# EAGLE library part AT28C64B (library eeprom)
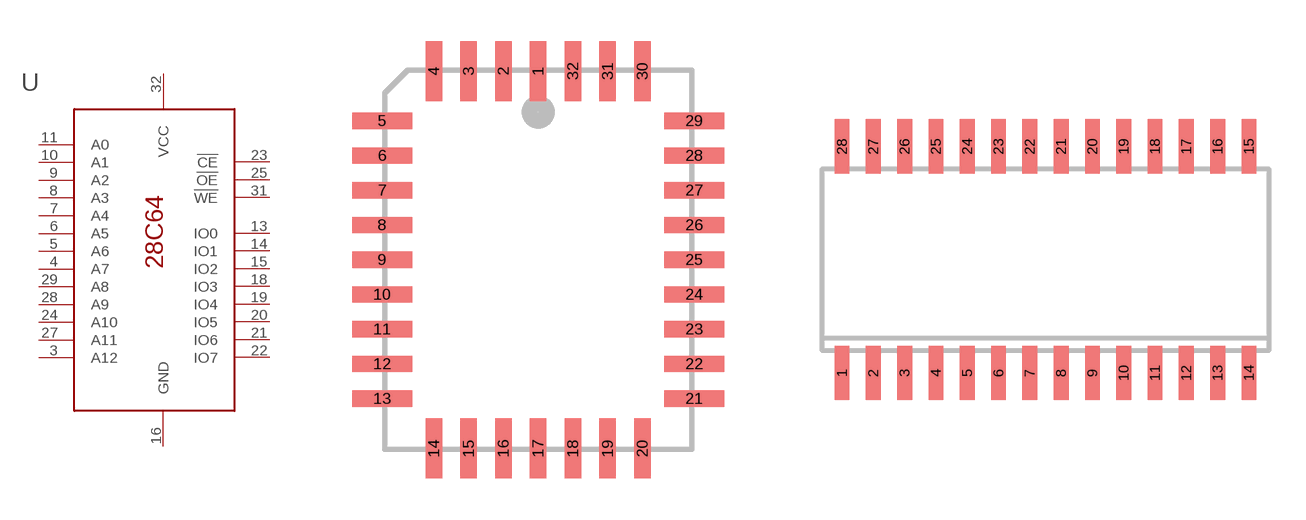
[diagram p0: symbol with the pads of PLCCR32; footprints PLCCR32, SO28W]

Designator prefix U

## AT28C64B32J  [PLCCR32]
3  A12
4  A7
5  A6
6  A5
7  A4
8  A3
9  A2
10  A1
11  A0
13  IO0
14  IO1
15  IO2
16  GND  pwr
18  IO3
19  IO4
20  IO5
21  IO6
22  IO7
23  !CE
24  A10
25  !OE
27  A11
28  A9
29  A8
31  !WE
32  VCC  pwr

## AT28C64B28S  [SO28W]
2  A12
3  A7
4  A6
5  A5
6  A4
7  A3
8  A2
9  A1
10  A0
11  IO0
12  IO1
13  IO2
14  GND  pwr
15  IO3
16  IO4
17  IO5
18  IO6
19  IO7
20  !CE
21  A10
22  !OE
23  A11
24  A9
25  A8
27  !WE
28  VCC  pwr

## Footprint PLCCR32 (pad centres in mm)
PLASTIC LEADED CHIP CARRIER rectangle
smd 0.6 x 2.2: 1 0,6.9; 2 -1.27,6.9; 3 -2.54,6.9; 4 -3.81,6.9; 14 -3.81,-6.9; 15 -2.54,-6.9; 16 -1.27,-6.9; 17 0,-6.9; 18 1.27,-6.9; 19 2.54,-6.9; 20 3.81,-6.9; 30 3.81,6.9; 31 2.54,6.9; 32 1.27,6.9
smd 2.2 x 0.6: 5 -5.7,5.08; 6 -5.7,3.81; 7 -5.7,2.54; 8 -5.7,1.27; 9 -5.7,0; 10 -5.7,-1.27; 11 -5.7,-2.54; 12 -5.7,-3.81; 13 -5.7,-5.08; 21 5.7,-5.08; 22 5.7,-3.81; 23 5.7,-2.54; 24 5.7,-1.27; 25 5.7,0; 26 5.7,1.27; 27 5.7,2.54; 28 5.7,3.81; 29 5.7,5.08

## Footprint SO28W (pad centres in mm)
SMALL OUTLINE INTEGRATED CIRCUIT wide body 7.5 mm/JEDEC MO-119AB
smd 0.6 x 2.2: 1 -8.255,-4.6; 2 -6.985,-4.6; 3 -5.715,-4.6; 4 -4.445,-4.6; 5 -3.175,-4.6; 6 -1.905,-4.6; 7 -0.635,-4.6; 8 0.635,-4.6; 9 1.905,-4.6; 10 3.175,-4.6; 11 4.445,-4.6; 12 5.715,-4.6; 13 6.985,-4.6; 14 8.255,-4.6; 15 8.255,4.6; 16 6.985,4.6; 17 5.715,4.6; 18 4.445,4.6; 19 3.175,4.6; 20 1.905,4.6; 21 0.635,4.6; 22 -0.635,4.6; 23 -1.905,4.6; 24 -3.175,4.6; 25 -4.445,4.6; 26 -5.715,4.6; 27 -6.985,4.6; 28 -8.255,4.6